# Altium integrated library Altium_WE-TPC_rev22d.IntLib: 258 symbols (part 4 of 5)
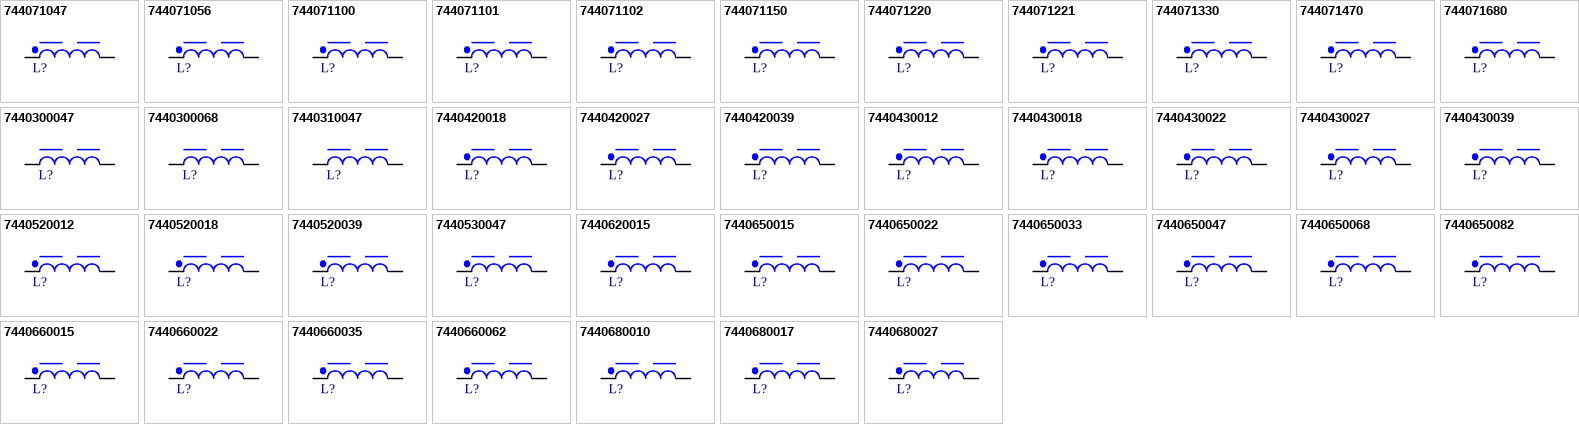
[diagram p9: symbols 744071047 to 7440680027]

## 7440420018
designator L?, comment 1.8uH, 2.35A  (value not drawn)
WE-TPC SMT Tiny Power Inductor, size 4818, 1.8uH, 2.35A, 40mOhm; Manufacturer Part Number: 7440420018; Manufacturer: Wurth Elektronik; Case/Size Code: 4818; Saturation Current: 2.4A; Self Resonant Frequency: 100MHz; Category: Power Inductors; Match Code: WE-TPC; ComponentLink1Description: Website Link; ComponentLink1URL: https://www.we-online.com/redexpert/article/7440420018?ad; ComponentLink2Description: Datasheet Link; ComponentLink2URL: https://www.we-online.com/redexpert/spec/7440420018?ad; Mount: Surface Mount; Operating Temperature Max: 125°C; Operating Temperature Min: -40°C; Packaging: Tape and Reel; Length: 4.8mm; Width: 4.8mm; Height: 1.8mm; DC Resistance: 40mOhm; Inductance: 1.8uH; Rated Current: 2.35A
footprint WE-TPC_4818
simulation model 4818_7440420018_1.8u
pins: 1, 2

## 7440420027
designator L?, comment 2.7uH, 2.03A  (value not drawn)
WE-TPC SMT Tiny Power Inductor, size 4818, 2.7uH, 2.03A, 47mOhm; Manufacturer Part Number: 7440420027; Manufacturer: Wurth Elektronik; Case/Size Code: 4818; Saturation Current: 2.2A; Self Resonant Frequency: 90MHz; Category: Power Inductors; Match Code: WE-TPC; ComponentLink1Description: Website Link; ComponentLink1URL: https://www.we-online.com/redexpert/article/7440420027?ad; ComponentLink2Description: Datasheet Link; ComponentLink2URL: https://www.we-online.com/redexpert/spec/7440420027?ad; Mount: Surface Mount; Operating Temperature Max: 125°C; Operating Temperature Min: -40°C; Packaging: Tape and Reel; Length: 4.8mm; Width: 4.8mm; Height: 1.8mm; DC Resistance: 47mOhm; Inductance: 2.7uH; Rated Current: 2.03A
footprint WE-TPC_4818
simulation model 4818_7440420027_2.7u
pins: 1, 2

## 7440420039
designator L?, comment 3.9uH, 1.82A  (value not drawn)
WE-TPC SMT Tiny Power Inductor, size 4818, 3.9uH, 1.82A, 60mOhm; Manufacturer Part Number: 7440420039; Manufacturer: Wurth Elektronik; Case/Size Code: 4818; Saturation Current: 1.7A; Self Resonant Frequency: 70MHz; Category: Power Inductors; Match Code: WE-TPC; ComponentLink1Description: Website Link; ComponentLink1URL: https://www.we-online.com/redexpert/article/7440420039?ad; ComponentLink2Description: Datasheet Link; ComponentLink2URL: https://www.we-online.com/redexpert/spec/7440420039?ad; Mount: Surface Mount; Operating Temperature Max: 125°C; Operating Temperature Min: -40°C; Packaging: Tape and Reel; Length: 4.8mm; Width: 4.8mm; Height: 1.8mm; DC Resistance: 60mOhm; Inductance: 3.9uH; Rated Current: 1.82A
footprint WE-TPC_4818
simulation model 4818_7440420039_3.9u
pins: 1, 2

## 7440430012
designator L?, comment 1.2uH, 3.1A  (value not drawn)
WE-TPC SMT Tiny Power Inductor, size 4828, 1.2uH, 3.1A, 17mOhm; Manufacturer Part Number: 7440430012; Manufacturer: Wurth Elektronik; Case/Size Code: 4828; Saturation Current: 2.8A; Self Resonant Frequency: 150MHz; Category: Power Inductors; Match Code: WE-TPC; ComponentLink1Description: Website Link; ComponentLink1URL: https://www.we-online.com/redexpert/article/7440430012?ad; ComponentLink2Description: Datasheet Link; ComponentLink2URL: https://www.we-online.com/redexpert/spec/7440430012?ad; Mount: Surface Mount; Operating Temperature Max: 125°C; Operating Temperature Min: -40°C; Packaging: Tape and Reel; Length: 4.8mm; Width: 4.8mm; Height: 2.8mm; DC Resistance: 17mOhm; Inductance: 1.2uH; Rated Current: 3.1A
footprint WE-TPC_4828
simulation model 4828_7440430012_1.2u
pins: 1, 2

## 7440430018
designator L?, comment 1.8uH, 2.7A  (value not drawn)
WE-TPC SMT Tiny Power Inductor, size 4828, 1.8uH, 2.7A, 20mOhm; Manufacturer Part Number: 7440430018; Manufacturer: Wurth Elektronik; Case/Size Code: 4828; Saturation Current: 2.45A; Self Resonant Frequency: 120MHz; Category: Power Inductors; Match Code: WE-TPC; ComponentLink1Description: Website Link; ComponentLink1URL: https://www.we-online.com/redexpert/article/7440430018?ad; ComponentLink2Description: Datasheet Link; ComponentLink2URL: https://www.we-online.com/redexpert/spec/7440430018?ad; Mount: Surface Mount; Operating Temperature Max: 125°C; Operating Temperature Min: -40°C; Packaging: Tape and Reel; Length: 4.8mm; Width: 4.8mm; Height: 2.8mm; DC Resistance: 20mOhm; Inductance: 1.8uH; Rated Current: 2.7A
footprint WE-TPC_4828
simulation model 4828_7440430018_1.8u
pins: 1, 2

## 7440430022
designator L?, comment 2.2uH, 2.5A  (value not drawn)
WE-TPC SMT Tiny Power Inductor, size 4828, 2.2uH, 2.5A, 27mOhm; Manufacturer Part Number: 7440430022; Manufacturer: Wurth Elektronik; Case/Size Code: 4828; Saturation Current: 2.35A; Self Resonant Frequency: 100MHz; Category: Power Inductors; Match Code: WE-TPC; ComponentLink1Description: Website Link; ComponentLink1URL: https://www.we-online.com/redexpert/article/7440430022?ad; ComponentLink2Description: Datasheet Link; ComponentLink2URL: https://www.we-online.com/redexpert/spec/7440430022?ad; Mount: Surface Mount; Operating Temperature Max: 125°C; Operating Temperature Min: -40°C; Packaging: Tape and Reel; Length: 4.8mm; Width: 4.8mm; Height: 2.8mm; DC Resistance: 27mOhm; Inductance: 2.2uH; Rated Current: 2.5A
footprint WE-TPC_4828
simulation model 4828_7440430022_2.2u
pins: 1, 2

## 7440430027
designator L?, comment 2.7uH, 2.35A  (value not drawn)
WE-TPC SMT Tiny Power Inductor, size 4828, 2.7uH, 2.35A, 25mOhm; Manufacturer Part Number: 7440430027; Manufacturer: Wurth Elektronik; Case/Size Code: 4828; Saturation Current: 1.95A; Self Resonant Frequency: 80MHz; Category: Power Inductors; Match Code: WE-TPC; ComponentLink1Description: Website Link; ComponentLink1URL: https://www.we-online.com/redexpert/article/7440430027?ad; ComponentLink2Description: Datasheet Link; ComponentLink2URL: https://www.we-online.com/redexpert/spec/7440430027?ad; Mount: Surface Mount; Operating Temperature Max: 125°C; Operating Temperature Min: -40°C; Packaging: Tape and Reel; Length: 4.8mm; Width: 4.8mm; Height: 2.8mm; DC Resistance: 25mOhm; Inductance: 2.7uH; Rated Current: 2.35A
footprint WE-TPC_4828
simulation model 4828_7440430027_2.7u
pins: 1, 2

## 7440430039
designator L?, comment 3.9uH, 1.72A  (value not drawn)
WE-TPC SMT Tiny Power Inductor, size 4828, 3.9uH, 1.72A, 50mOhm; Manufacturer Part Number: 7440430039; Manufacturer: Wurth Elektronik; Case/Size Code: 4828; Saturation Current: 1.65A; Self Resonant Frequency: 55MHz; Category: Power Inductors; Match Code: WE-TPC; ComponentLink1Description: Website Link; ComponentLink1URL: https://www.we-online.com/redexpert/article/7440430039?ad; ComponentLink2Description: Datasheet Link; ComponentLink2URL: https://www.we-online.com/redexpert/spec/7440430039?ad; Mount: Surface Mount; Operating Temperature Max: 125°C; Operating Temperature Min: -40°C; Packaging: Tape and Reel; Length: 4.8mm; Width: 4.8mm; Height: 2.8mm; DC Resistance: 50mOhm; Inductance: 3.9uH; Rated Current: 1.72A
footprint WE-TPC_4828
simulation model 4828_7440430039_3.9u
pins: 1, 2

## 7440520012
designator L?, comment 1.2uH, 3A  (value not drawn)
WE-TPC SMT Tiny Power Inductor, size 5818, 1.2uH, 3A, 20mOhm; Manufacturer Part Number: 7440520012; Manufacturer: Wurth Elektronik; Case/Size Code: 5818; Saturation Current: 3.5A; Self Resonant Frequency: 120MHz; Category: Power Inductors; Match Code: WE-TPC; ComponentLink1Description: Website Link; ComponentLink1URL: https://www.we-online.com/redexpert/article/7440520012?ad; ComponentLink2Description: Datasheet Link; ComponentLink2URL: https://www.we-online.com/redexpert/spec/7440520012?ad; Mount: Surface Mount; Operating Temperature Max: 125°C; Operating Temperature Min: -40°C; Packaging: Tape and Reel; Length: 5.8mm; Width: 5.8mm; Height: 1.8mm; DC Resistance: 20mOhm; Inductance: 1.2uH; Rated Current: 3A
footprint WE-TPC_5818
simulation model 5818_7440520012_1.2u
pins: 1, 2

## 7440520018
designator L?, comment 1.8uH, 2.6A  (value not drawn)
WE-TPC SMT Tiny Power Inductor, size 5818, 1.8uH, 2.6A, 24mOhm; Manufacturer Part Number: 7440520018; Manufacturer: Wurth Elektronik; Case/Size Code: 5818; Saturation Current: 3A; Self Resonant Frequency: 100MHz; Category: Power Inductors; Match Code: WE-TPC; ComponentLink1Description: Website Link; ComponentLink1URL: https://www.we-online.com/redexpert/article/7440520018?ad; ComponentLink2Description: Datasheet Link; ComponentLink2URL: https://www.we-online.com/redexpert/spec/7440520018?ad; Mount: Surface Mount; Operating Temperature Max: 125°C; Operating Temperature Min: -40°C; Packaging: Tape and Reel; Length: 5.8mm; Width: 5.8mm; Height: 1.8mm; DC Resistance: 24mOhm; Inductance: 1.8uH; Rated Current: 2.6A
footprint WE-TPC_5818
simulation model 5818_7440520018_1.8u
pins: 1, 2

## 7440520039
designator L?, comment 3.9uH, 2A  (value not drawn)
WE-TPC SMT Tiny Power Inductor, size 5818, 3.9uH, 2A, 50mOhm; Manufacturer Part Number: 7440520039; Manufacturer: Wurth Elektronik; Case/Size Code: 5818; Saturation Current: 2.1A; Self Resonant Frequency: 60MHz; Category: Power Inductors; Match Code: WE-TPC; ComponentLink1Description: Website Link; ComponentLink1URL: https://www.we-online.com/redexpert/article/7440520039?ad; ComponentLink2Description: Datasheet Link; ComponentLink2URL: https://www.we-online.com/redexpert/spec/7440520039?ad; Mount: Surface Mount; Operating Temperature Max: 125°C; Operating Temperature Min: -40°C; Packaging: Tape and Reel; Length: 5.8mm; Width: 5.8mm; Height: 1.8mm; DC Resistance: 50mOhm; Inductance: 3.9uH; Rated Current: 2A
footprint WE-TPC_5818
simulation model 5818_7440520039_3.9u
pins: 1, 2

## 7440530047
designator L?, comment 4.7uH, 2.4A  (value not drawn)
WE-TPC SMT Tiny Power Inductor, size 5828, 4.7uH, 2.4A, 30mOhm; Manufacturer Part Number: 7440530047; Manufacturer: Wurth Elektronik; Case/Size Code: 5828; Saturation Current: 1.95A; Self Resonant Frequency: 40MHz; Category: Power Inductors; Match Code: WE-TPC; ComponentLink1Description: Website Link; ComponentLink1URL: https://www.we-online.com/redexpert/article/7440530047?ad; ComponentLink2Description: Datasheet Link; ComponentLink2URL: https://www.we-online.com/redexpert/spec/7440530047?ad; Mount: Surface Mount; Operating Temperature Max: 125°C; Operating Temperature Min: -40°C; Packaging: Tape and Reel; Length: 5.8mm; Width: 5.8mm; Height: 2.8mm; DC Resistance: 30mOhm; Inductance: 4.7uH; Rated Current: 2.4A
footprint WE-TPC_5828
simulation model 5828_7440530047_4.7u
pins: 1, 2

## 7440620015
designator L?, comment 1.5uH, 4.3A  (value not drawn)
WE-TPC SMT Tiny Power Inductor, size 6823, 1.5uH, 4.3A, 10mOhm; Manufacturer Part Number: 7440620015; Manufacturer: Wurth Elektronik; Case/Size Code: 6823; Saturation Current: 4A; Self Resonant Frequency: 100MHz; Category: Power Inductors; Match Code: WE-TPC; ComponentLink1Description: Website Link; ComponentLink1URL: https://www.we-online.com/redexpert/article/7440620015?ad; ComponentLink2Description: Datasheet Link; ComponentLink2URL: https://www.we-online.com/redexpert/spec/7440620015?ad; Mount: Surface Mount; Operating Temperature Max: 125°C; Operating Temperature Min: -40°C; Packaging: Tape and Reel; Length: 6.8mm; Width: 6.8mm; Height: 2.3mm; DC Resistance: 10mOhm; Inductance: 1.5uH; Rated Current: 4.3A
footprint WE-TPC_6823
simulation model 6823_7440620015_1.5u
pins: 1, 2

## 7440650015
designator L?, comment 1.5uH, 7.2A  (value not drawn)
WE-TPC SMT Tiny Power Inductor, size 1028, 1.5uH, 7.2A, 7.3mOhm; Manufacturer Part Number: 7440650015; Manufacturer: Wurth Elektronik; Case/Size Code: 1028; Saturation Current: 7.5A; Self Resonant Frequency: 80MHz; Category: Power Inductors; Match Code: WE-TPC; ComponentLink1Description: Website Link; ComponentLink1URL: https://www.we-online.com/redexpert/article/7440650015?ad; ComponentLink2Description: Datasheet Link; ComponentLink2URL: https://www.we-online.com/redexpert/spec/7440650015?ad; Mount: Surface Mount; Operating Temperature Max: 125°C; Operating Temperature Min: -40°C; Packaging: Tape and Reel; Length: 10mm; Width: 10mm; Height: 2.78mm; DC Resistance: 7.3mOhm; Inductance: 1.5uH; Rated Current: 7.2A
footprint WE-TPC_1028
simulation model 1028_7440650015_1.5u
pins: 1, 2

## 7440650022
designator L?, comment 2.2uH, 6.2A  (value not drawn)
WE-TPC SMT Tiny Power Inductor, size 1028, 2.2uH, 6.2A, 11mOhm; Manufacturer Part Number: 7440650022; Manufacturer: Wurth Elektronik; Case/Size Code: 1028; Saturation Current: 5.9A; Self Resonant Frequency: 65MHz; Category: Power Inductors; Match Code: WE-TPC; ComponentLink1Description: Website Link; ComponentLink1URL: https://www.we-online.com/redexpert/article/7440650022?ad; ComponentLink2Description: Datasheet Link; ComponentLink2URL: https://www.we-online.com/redexpert/spec/7440650022?ad; Mount: Surface Mount; Operating Temperature Max: 125°C; Operating Temperature Min: -40°C; Packaging: Tape and Reel; Length: 10mm; Width: 10mm; Height: 2.78mm; DC Resistance: 11mOhm; Inductance: 2.2uH; Rated Current: 6.2A
footprint WE-TPC_1028
simulation model 1028_7440650022_2.2u
pins: 1, 2

## 7440650033
designator L?, comment 3.3uH, 5.3A  (value not drawn)
WE-TPC SMT Tiny Power Inductor, size 1028, 3.3uH, 5.3A, 15mOhm; Manufacturer Part Number: 7440650033; Manufacturer: Wurth Elektronik; Case/Size Code: 1028; Saturation Current: 4.7A; Self Resonant Frequency: 55MHz; Category: Power Inductors; Match Code: WE-TPC; ComponentLink1Description: Website Link; ComponentLink1URL: https://www.we-online.com/redexpert/article/7440650033?ad; ComponentLink2Description: Datasheet Link; ComponentLink2URL: https://www.we-online.com/redexpert/spec/7440650033?ad; Mount: Surface Mount; Operating Temperature Max: 125°C; Operating Temperature Min: -40°C; Packaging: Tape and Reel; Length: 10mm; Width: 10mm; Height: 2.78mm; DC Resistance: 15mOhm; Inductance: 3.3uH; Rated Current: 5.3A
footprint WE-TPC_1028
simulation model 1028_7440650033_3.3u
pins: 1, 2

## 7440650047
designator L?, comment 4.7uH, 4.6A  (value not drawn)
WE-TPC SMT Tiny Power Inductor, size 1028, 4.7uH, 4.6A, 16.5mOhm; Manufacturer Part Number: 7440650047; Manufacturer: Wurth Elektronik; Case/Size Code: 1028; Saturation Current: 4.2A; Self Resonant Frequency: 40MHz; Category: Power Inductors; Match Code: WE-TPC; ComponentLink1Description: Website Link; ComponentLink1URL: https://www.we-online.com/redexpert/article/7440650047?ad; ComponentLink2Description: Datasheet Link; ComponentLink2URL: https://www.we-online.com/redexpert/spec/7440650047?ad; Mount: Surface Mount; Operating Temperature Max: 125°C; Operating Temperature Min: -40°C; Packaging: Tape and Reel; Length: 10mm; Width: 10mm; Height: 2.78mm; DC Resistance: 16.5mOhm; Inductance: 4.7uH; Rated Current: 4.6A
footprint WE-TPC_1028
simulation model 1028_7440650047_4.7u
pins: 1, 2

## 7440650068
designator L?, comment 6.8uH, 4.2A  (value not drawn)
WE-TPC SMT Tiny Power Inductor, size 1028, 6.8uH, 4.2A, 25mOhm; Manufacturer Part Number: 7440650068; Manufacturer: Wurth Elektronik; Case/Size Code: 1028; Saturation Current: 3.6A; Self Resonant Frequency: 30MHz; Category: Power Inductors; Match Code: WE-TPC; ComponentLink1Description: Website Link; ComponentLink1URL: https://www.we-online.com/redexpert/article/7440650068?ad; ComponentLink2Description: Datasheet Link; ComponentLink2URL: https://www.we-online.com/redexpert/spec/7440650068?ad; Mount: Surface Mount; Operating Temperature Max: 125°C; Operating Temperature Min: -40°C; Packaging: Tape and Reel; Length: 10mm; Width: 10mm; Height: 2.78mm; DC Resistance: 25mOhm; Inductance: 6.8uH; Rated Current: 4.2A
footprint WE-TPC_1028
simulation model 1028_7440650068_6.8u
pins: 1, 2

## 7440650082
designator L?, comment 8.2uH, 3.8A  (value not drawn)
WE-TPC SMT Tiny Power Inductor, size 1028, 8.2uH, 3.8A, 28.5mOhm; Manufacturer Part Number: 7440650082; Manufacturer: Wurth Elektronik; Case/Size Code: 1028; Saturation Current: 2.8A; Self Resonant Frequency: 28MHz; Category: Power Inductors; Match Code: WE-TPC; ComponentLink1Description: Website Link; ComponentLink1URL: https://www.we-online.com/redexpert/article/7440650082?ad; ComponentLink2Description: Datasheet Link; ComponentLink2URL: https://www.we-online.com/redexpert/spec/7440650082?ad; Mount: Surface Mount; Operating Temperature Max: 125°C; Operating Temperature Min: -40°C; Packaging: Tape and Reel; Length: 10mm; Width: 10mm; Height: 2.78mm; DC Resistance: 28.5mOhm; Inductance: 8.2uH; Rated Current: 3.8A
footprint WE-TPC_1028
simulation model 1028_7440650082_8.2u
pins: 1, 2

## 7440660015
designator L?, comment 1.5uH, 9.6A  (value not drawn)
WE-TPC SMT Tiny Power Inductor, size 1038, 1.5uH, 9.6A, 6.6mOhm; Manufacturer Part Number: 7440660015; Manufacturer: Wurth Elektronik; Case/Size Code: 1038; Saturation Current: 10A; Self Resonant Frequency: 65MHz; Category: Power Inductors; Match Code: WE-TPC; ComponentLink1Description: Website Link; ComponentLink1URL: https://www.we-online.com/redexpert/article/7440660015?ad; ComponentLink2Description: Datasheet Link; ComponentLink2URL: https://www.we-online.com/redexpert/spec/7440660015?ad; Mount: Surface Mount; Operating Temperature Max: 125°C; Operating Temperature Min: -40°C; Packaging: Tape and Reel; Length: 10mm; Width: 10mm; Height: 3.8mm; DC Resistance: 6.6mOhm; Inductance: 1.5uH; Rated Current: 9.6A
footprint WE-TPC_1038
simulation model 1038_7440660015_1.5u
pins: 1, 2

## 7440660022
designator L?, comment 2.2uH, 8.8A  (value not drawn)
WE-TPC SMT Tiny Power Inductor, size 1038, 2.2uH, 8.8A, 8.2mOhm; Manufacturer Part Number: 7440660022; Manufacturer: Wurth Elektronik; Case/Size Code: 1038; Saturation Current: 6.8A; Self Resonant Frequency: 55MHz; Category: Power Inductors; Match Code: WE-TPC; ComponentLink1Description: Website Link; ComponentLink1URL: https://www.we-online.com/redexpert/article/7440660022?ad; ComponentLink2Description: Datasheet Link; ComponentLink2URL: https://www.we-online.com/redexpert/spec/7440660022?ad; Mount: Surface Mount; Operating Temperature Max: 125°C; Operating Temperature Min: -40°C; Packaging: Tape and Reel; Length: 10mm; Width: 10mm; Height: 3.8mm; DC Resistance: 8.2mOhm; Inductance: 2.2uH; Rated Current: 8.8A
footprint WE-TPC_1038
simulation model 1038_7440660022_2.2u
pins: 1, 2

## 7440660035
designator L?, comment 3.5uH, 6.6A  (value not drawn)
WE-TPC SMT Tiny Power Inductor, size 1038, 3.5uH, 6.6A, 13mOhm; Manufacturer Part Number: 7440660035; Manufacturer: Wurth Elektronik; Case/Size Code: 1038; Saturation Current: 6.4A; Self Resonant Frequency: 35MHz; Category: Power Inductors; Match Code: WE-TPC; ComponentLink1Description: Website Link; ComponentLink1URL: https://www.we-online.com/redexpert/article/7440660035?ad; ComponentLink2Description: Datasheet Link; ComponentLink2URL: https://www.we-online.com/redexpert/spec/7440660035?ad; Mount: Surface Mount; Operating Temperature Max: 125°C; Operating Temperature Min: -40°C; Packaging: Tape and Reel; Length: 10mm; Width: 10mm; Height: 3.8mm; DC Resistance: 13mOhm; Inductance: 3.5uH; Rated Current: 6.6A
footprint WE-TPC_1038
simulation model 1038_7440660035_3.5u
pins: 1, 2

## 7440660062
designator L?, comment 6.2uH, 5A  (value not drawn)
WE-TPC SMT Tiny Power Inductor, size 1038, 6.2uH, 5A, 20mOhm; Manufacturer Part Number: 7440660062; Manufacturer: Wurth Elektronik; Case/Size Code: 1038; Saturation Current: 4.5A; Self Resonant Frequency: 25MHz; Category: Power Inductors; Match Code: WE-TPC; ComponentLink1Description: Website Link; ComponentLink1URL: https://www.we-online.com/redexpert/article/7440660062?ad; ComponentLink2Description: Datasheet Link; ComponentLink2URL: https://www.we-online.com/redexpert/spec/7440660062?ad; Mount: Surface Mount; Operating Temperature Max: 125°C; Operating Temperature Min: -40°C; Packaging: Tape and Reel; Length: 10mm; Width: 10mm; Height: 3.8mm; DC Resistance: 20mOhm; Inductance: 6.2uH; Rated Current: 5A
footprint WE-TPC_1038
simulation model 1038_7440660062_6.2u
pins: 1, 2

## 7440680010
designator L?, comment 1uH, 2.8A  (value not drawn)
WE-TPC SMT Tiny Power Inductor, size 8012, 1uH, 2.8A, 32mOhm; Manufacturer Part Number: 7440680010; Manufacturer: Wurth Elektronik; Case/Size Code: 8012; Saturation Current: 3.3A; Self Resonant Frequency: 110MHz; Category: Power Inductors; Match Code: WE-TPC; ComponentLink1Description: Website Link; ComponentLink1URL: https://www.we-online.com/redexpert/article/7440680010?ad; ComponentLink2Description: Datasheet Link; ComponentLink2URL: https://www.we-online.com/redexpert/spec/7440680010?ad; Mount: Surface Mount; Operating Temperature Max: 125°C; Operating Temperature Min: -40°C; Packaging: Tape and Reel; Length: 8mm; Width: 8mm; Height: 1.1mm; DC Resistance: 32mOhm; Inductance: 1uH; Rated Current: 2.8A
footprint WE-TPC_8012
simulation model 8012_7440680010_1u
pins: 1, 2

## 7440680017
designator L?, comment 1.7uH, 2.5A  (value not drawn)
WE-TPC SMT Tiny Power Inductor, size 8012, 1.7uH, 2.5A, 41mOhm; Manufacturer Part Number: 7440680017; Manufacturer: Wurth Elektronik; Case/Size Code: 8012; Saturation Current: 2.4A; Self Resonant Frequency: 100MHz; Category: Power Inductors; Match Code: WE-TPC; ComponentLink1Description: Website Link; ComponentLink1URL: https://www.we-online.com/redexpert/article/7440680017?ad; ComponentLink2Description: Datasheet Link; ComponentLink2URL: https://www.we-online.com/redexpert/spec/7440680017?ad; Mount: Surface Mount; Operating Temperature Max: 125°C; Operating Temperature Min: -40°C; Packaging: Tape and Reel; Length: 8mm; Width: 8mm; Height: 1.1mm; DC Resistance: 41mOhm; Inductance: 1.7uH; Rated Current: 2.5A
footprint WE-TPC_8012
simulation model 8012_7440680017_1.7u
pins: 1, 2

## 7440680027
designator L?, comment 2.7uH, 2.2A  (value not drawn)
WE-TPC SMT Tiny Power Inductor, size 8012, 2.7uH, 2.2A, 52mOhm; Manufacturer Part Number: 7440680027; Manufacturer: Wurth Elektronik; Case/Size Code: 8012; Saturation Current: 1.9A; Self Resonant Frequency: 80MHz; Category: Power Inductors; Match Code: WE-TPC; ComponentLink1Description: Website Link; ComponentLink1URL: https://www.we-online.com/redexpert/article/7440680027?ad; ComponentLink2Description: Datasheet Link; ComponentLink2URL: https://www.we-online.com/redexpert/spec/7440680027?ad; Mount: Surface Mount; Operating Temperature Max: 125°C; Operating Temperature Min: -40°C; Packaging: Tape and Reel; Length: 8mm; Width: 8mm; Height: 1.1mm; DC Resistance: 52mOhm; Inductance: 2.7uH; Rated Current: 2.2A
footprint WE-TPC_8012
simulation model 8012_7440680027_2.7u
pins: 1, 2

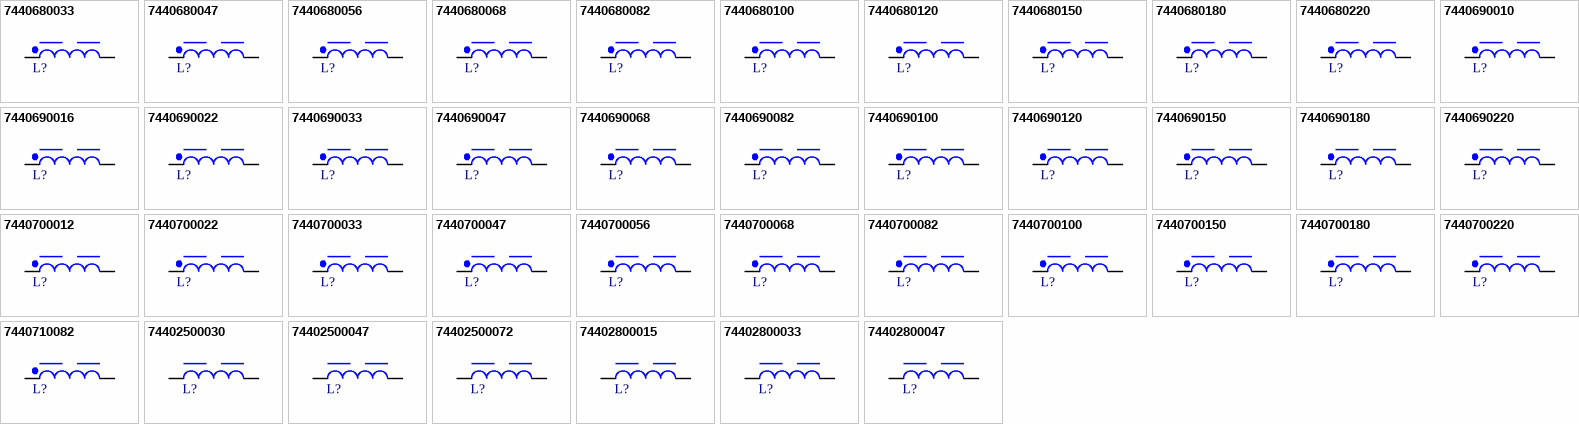
[diagram p5: symbols 7440680033 to 74402800047]

## 7440680033
designator L?, comment 3.3uH, 2A  (value not drawn)
WE-TPC SMT Tiny Power Inductor, size 8012, 3.3uH, 2A, 61mOhm; Manufacturer Part Number: 7440680033; Manufacturer: Wurth Elektronik; Case/Size Code: 8012; Saturation Current: 1.8A; Self Resonant Frequency: 65MHz; Category: Power Inductors; Match Code: WE-TPC; ComponentLink1Description: Website Link; ComponentLink1URL: https://www.we-online.com/redexpert/article/7440680033?ad; ComponentLink2Description: Datasheet Link; ComponentLink2URL: https://www.we-online.com/redexpert/spec/7440680033?ad; Mount: Surface Mount; Operating Temperature Max: 125°C; Operating Temperature Min: -40°C; Packaging: Tape and Reel; Length: 8mm; Width: 8mm; Height: 1.1mm; DC Resistance: 61mOhm; Inductance: 3.3uH; Rated Current: 2A
footprint WE-TPC_8012
simulation model 8012_7440680033_3.3u
pins: 1, 2

## 7440680047
designator L?, comment 4.7uH, 1.85A  (value not drawn)
WE-TPC SMT Tiny Power Inductor, size 8012, 4.7uH, 1.85A, 72mOhm; Manufacturer Part Number: 7440680047; Manufacturer: Wurth Elektronik; Case/Size Code: 8012; Saturation Current: 1.55A; Self Resonant Frequency: 55MHz; Category: Power Inductors; Match Code: WE-TPC; ComponentLink1Description: Website Link; ComponentLink1URL: https://www.we-online.com/redexpert/article/7440680047?ad; ComponentLink2Description: Datasheet Link; ComponentLink2URL: https://www.we-online.com/redexpert/spec/7440680047?ad; Mount: Surface Mount; Operating Temperature Max: 125°C; Operating Temperature Min: -40°C; Packaging: Tape and Reel; Length: 8mm; Width: 8mm; Height: 1.1mm; DC Resistance: 72mOhm; Inductance: 4.7uH; Rated Current: 1.85A
footprint WE-TPC_8012
simulation model 8012_7440680047_4.7u
pins: 1, 2

## 7440680056
designator L?, comment 5.6uH, 1.5A  (value not drawn)
WE-TPC SMT Tiny Power Inductor, size 8012, 5.6uH, 1.5A, 110mOhm; Manufacturer Part Number: 7440680056; Manufacturer: Wurth Elektronik; Case/Size Code: 8012; Saturation Current: 1.4A; Self Resonant Frequency: 48MHz; Category: Power Inductors; Match Code: WE-TPC; ComponentLink1Description: Website Link; ComponentLink1URL: https://www.we-online.com/redexpert/article/7440680056?ad; ComponentLink2Description: Datasheet Link; ComponentLink2URL: https://www.we-online.com/redexpert/spec/7440680056?ad; Mount: Surface Mount; Operating Temperature Max: 125°C; Operating Temperature Min: -40°C; Packaging: Tape and Reel; Length: 8mm; Width: 8mm; Height: 1.1mm; DC Resistance: 110mOhm; Inductance: 5.6uH; Rated Current: 1.5A
footprint WE-TPC_8012
simulation model 8012_7440680056_5.6u
pins: 1, 2

## 7440680068
designator L?, comment 6.8uH, 1.4A  (value not drawn)
WE-TPC SMT Tiny Power Inductor, size 8012, 6.8uH, 1.4A, 127mOhm; Manufacturer Part Number: 7440680068; Manufacturer: Wurth Elektronik; Case/Size Code: 8012; Saturation Current: 1.2A; Self Resonant Frequency: 45MHz; Category: Power Inductors; Match Code: WE-TPC; ComponentLink1Description: Website Link; ComponentLink1URL: https://www.we-online.com/redexpert/article/7440680068?ad; ComponentLink2Description: Datasheet Link; ComponentLink2URL: https://www.we-online.com/redexpert/spec/7440680068?ad; Mount: Surface Mount; Operating Temperature Max: 125°C; Operating Temperature Min: -40°C; Packaging: Tape and Reel; Length: 8mm; Width: 8mm; Height: 1.1mm; DC Resistance: 127mOhm; Inductance: 6.8uH; Rated Current: 1.4A
footprint WE-TPC_8012
simulation model 8012_7440680068_6.8u
pins: 1, 2

## 7440680082
designator L?, comment 8.2uH, 1.35A  (value not drawn)
WE-TPC SMT Tiny Power Inductor, size 8012, 8.2uH, 1.35A, 142mOhm; Manufacturer Part Number: 7440680082; Manufacturer: Wurth Elektronik; Case/Size Code: 8012; Saturation Current: 1.1A; Self Resonant Frequency: 35MHz; Category: Power Inductors; Match Code: WE-TPC; ComponentLink1Description: Website Link; ComponentLink1URL: https://www.we-online.com/redexpert/article/7440680082?ad; ComponentLink2Description: Datasheet Link; ComponentLink2URL: https://www.we-online.com/redexpert/spec/7440680082?ad; Mount: Surface Mount; Operating Temperature Max: 125°C; Operating Temperature Min: -40°C; Packaging: Tape and Reel; Length: 8mm; Width: 8mm; Height: 1.1mm; DC Resistance: 142mOhm; Inductance: 8.2uH; Rated Current: 1.35A
footprint WE-TPC_8012
simulation model 8012_7440680082_8.2u
pins: 1, 2

## 7440680100
designator L?, comment 10uH, 1.2A  (value not drawn)
WE-TPC SMT Tiny Power Inductor, size 8012, 10uH, 1.2A, 177mOhm; Manufacturer Part Number: 7440680100; Manufacturer: Wurth Elektronik; Case/Size Code: 8012; Saturation Current: 1A; Self Resonant Frequency: 25MHz; Category: Power Inductors; Match Code: WE-TPC; ComponentLink1Description: Website Link; ComponentLink1URL: https://www.we-online.com/redexpert/article/7440680100?ad; ComponentLink2Description: Datasheet Link; ComponentLink2URL: https://www.we-online.com/redexpert/spec/7440680100?ad; Mount: Surface Mount; Operating Temperature Max: 125°C; Operating Temperature Min: -40°C; Packaging: Tape and Reel; Length: 8mm; Width: 8mm; Height: 1.1mm; DC Resistance: 177mOhm; Inductance: 10uH; Rated Current: 1.2A
footprint WE-TPC_8012
simulation model 8012_7440680100_10u
pins: 1, 2

## 7440680120
designator L?, comment 12uH, 1.15A  (value not drawn)
WE-TPC SMT Tiny Power Inductor, size 8012, 12uH, 1.15A, 195mOhm; Manufacturer Part Number: 7440680120; Manufacturer: Wurth Elektronik; Case/Size Code: 8012; Saturation Current: 0.95A; Self Resonant Frequency: 22MHz; Category: Power Inductors; Match Code: WE-TPC; ComponentLink1Description: Website Link; ComponentLink1URL: https://www.we-online.com/redexpert/article/7440680120?ad; ComponentLink2Description: Datasheet Link; ComponentLink2URL: https://www.we-online.com/redexpert/spec/7440680120?ad; Mount: Surface Mount; Operating Temperature Max: 125°C; Operating Temperature Min: -40°C; Packaging: Tape and Reel; Length: 8mm; Width: 8mm; Height: 1.1mm; DC Resistance: 195mOhm; Inductance: 12uH; Rated Current: 1.15A
footprint WE-TPC_8012
simulation model 8012_7440680120_12u
pins: 1, 2

## 7440680150
designator L?, comment 15uH, 1.1A  (value not drawn)
WE-TPC SMT Tiny Power Inductor, size 8012, 15uH, 1.1A, 213mOhm; Manufacturer Part Number: 7440680150; Manufacturer: Wurth Elektronik; Case/Size Code: 8012; Saturation Current: 0.8A; Self Resonant Frequency: 20MHz; Category: Power Inductors; Match Code: WE-TPC; ComponentLink1Description: Website Link; ComponentLink1URL: https://www.we-online.com/redexpert/article/7440680150?ad; ComponentLink2Description: Datasheet Link; ComponentLink2URL: https://www.we-online.com/redexpert/spec/7440680150?ad; Mount: Surface Mount; Operating Temperature Max: 125°C; Operating Temperature Min: -40°C; Packaging: Tape and Reel; Length: 8mm; Width: 8mm; Height: 1.1mm; DC Resistance: 213mOhm; Inductance: 15uH; Rated Current: 1.1A
footprint WE-TPC_8012
simulation model 8012_7440680150_15u
pins: 1, 2

## 7440680180
designator L?, comment 18uH, 0.9A  (value not drawn)
WE-TPC SMT Tiny Power Inductor, size 8012, 18uH, 0.9A, 302mOhm; Manufacturer Part Number: 7440680180; Manufacturer: Wurth Elektronik; Case/Size Code: 8012; Saturation Current: 0.75A; Self Resonant Frequency: 14MHz; Category: Power Inductors; Match Code: WE-TPC; ComponentLink1Description: Website Link; ComponentLink1URL: https://www.we-online.com/redexpert/article/7440680180?ad; ComponentLink2Description: Datasheet Link; ComponentLink2URL: https://www.we-online.com/redexpert/spec/7440680180?ad; Mount: Surface Mount; Operating Temperature Max: 125°C; Operating Temperature Min: -40°C; Packaging: Tape and Reel; Length: 8mm; Width: 8mm; Height: 1.1mm; DC Resistance: 302mOhm; Inductance: 18uH; Rated Current: 0.9A
footprint WE-TPC_8012
simulation model 8012_7440680180_18u
pins: 1, 2

## 7440680220
designator L?, comment 22uH, 0.85A  (value not drawn)
WE-TPC SMT Tiny Power Inductor, size 8012, 22uH, 0.85A, 350mOhm; Manufacturer Part Number: 7440680220; Manufacturer: Wurth Elektronik; Case/Size Code: 8012; Saturation Current: 0.7A; Self Resonant Frequency: 10MHz; Category: Power Inductors; Match Code: WE-TPC; ComponentLink1Description: Website Link; ComponentLink1URL: https://www.we-online.com/redexpert/article/7440680220?ad; ComponentLink2Description: Datasheet Link; ComponentLink2URL: https://www.we-online.com/redexpert/spec/7440680220?ad; Mount: Surface Mount; Operating Temperature Max: 125°C; Operating Temperature Min: -40°C; Packaging: Tape and Reel; Length: 8mm; Width: 8mm; Height: 1.1mm; DC Resistance: 350mOhm; Inductance: 22uH; Rated Current: 0.85A
footprint WE-TPC_8012
simulation model 8012_7440680220_22u
pins: 1, 2

## 7440690010
designator L?, comment 1uH, 3.6A  (value not drawn)
WE-TPC SMT Tiny Power Inductor, size 8015, 1uH, 3.6A, 21mOhm; Manufacturer Part Number: 7440690010; Manufacturer: Wurth Elektronik; Case/Size Code: 8015; Saturation Current: 3.8A; Self Resonant Frequency: 90MHz; Category: Power Inductors; Match Code: WE-TPC; ComponentLink1Description: Website Link; ComponentLink1URL: https://www.we-online.com/redexpert/article/7440690010?ad; ComponentLink2Description: Datasheet Link; ComponentLink2URL: https://www.we-online.com/redexpert/spec/7440690010?ad; Mount: Surface Mount; Operating Temperature Max: 125°C; Operating Temperature Min: -40°C; Packaging: Tape and Reel; Length: 8mm; Width: 8mm; Height: 1.35mm; DC Resistance: 21mOhm; Inductance: 1uH; Rated Current: 3.6A
footprint WE-TPC_8015
simulation model 8015_7440690010_1u
pins: 1, 2

## 7440690016
designator L?, comment 1.6uH, 3.1A  (value not drawn)
WE-TPC SMT Tiny Power Inductor, size 8015, 1.6uH, 3.1A, 29mOhm; Manufacturer Part Number: 7440690016; Manufacturer: Wurth Elektronik; Case/Size Code: 8015; Saturation Current: 3.3A; Self Resonant Frequency: 85MHz; Category: Power Inductors; Match Code: WE-TPC; ComponentLink1Description: Website Link; ComponentLink1URL: https://www.we-online.com/redexpert/article/7440690016?ad; ComponentLink2Description: Datasheet Link; ComponentLink2URL: https://www.we-online.com/redexpert/spec/7440690016?ad; Mount: Surface Mount; Operating Temperature Max: 125°C; Operating Temperature Min: -40°C; Packaging: Tape and Reel; Length: 8mm; Width: 8mm; Height: 1.35mm; DC Resistance: 29mOhm; Inductance: 1.6uH; Rated Current: 3.1A
footprint WE-TPC_8015
simulation model 8015_7440690016_1.6u
pins: 1, 2

## 7440690022
designator L?, comment 2.2uH, 2.8A  (value not drawn)
WE-TPC SMT Tiny Power Inductor, size 8015, 2.2uH, 2.8A, 35mOhm; Manufacturer Part Number: 7440690022; Manufacturer: Wurth Elektronik; Case/Size Code: 8015; Saturation Current: 2.85A; Self Resonant Frequency: 50MHz; Category: Power Inductors; Match Code: WE-TPC; ComponentLink1Description: Website Link; ComponentLink1URL: https://www.we-online.com/redexpert/article/7440690022?ad; ComponentLink2Description: Datasheet Link; ComponentLink2URL: https://www.we-online.com/redexpert/spec/7440690022?ad; Mount: Surface Mount; Operating Temperature Max: 125°C; Operating Temperature Min: -40°C; Packaging: Tape and Reel; Length: 8mm; Width: 8mm; Height: 1.35mm; DC Resistance: 35mOhm; Inductance: 2.2uH; Rated Current: 2.8A
footprint WE-TPC_8015
simulation model 8015_7440690022_2.2u
pins: 1, 2

## 7440690033
designator L?, comment 3.3uH, 2.55A  (value not drawn)
WE-TPC SMT Tiny Power Inductor, size 8015, 3.3uH, 2.55A, 42mOhm; Manufacturer Part Number: 7440690033; Manufacturer: Wurth Elektronik; Case/Size Code: 8015; Saturation Current: 2.3A; Self Resonant Frequency: 40MHz; Category: Power Inductors; Match Code: WE-TPC; ComponentLink1Description: Website Link; ComponentLink1URL: https://www.we-online.com/redexpert/article/7440690033?ad; ComponentLink2Description: Datasheet Link; ComponentLink2URL: https://www.we-online.com/redexpert/spec/7440690033?ad; Mount: Surface Mount; Operating Temperature Max: 125°C; Operating Temperature Min: -40°C; Packaging: Tape and Reel; Length: 8mm; Width: 8mm; Height: 1.35mm; DC Resistance: 42mOhm; Inductance: 3.3uH; Rated Current: 2.55A
footprint WE-TPC_8015
simulation model 8015_7440690033_3.3u
pins: 1, 2

## 7440690047
designator L?, comment 4.7uH, 2.2A  (value not drawn)
WE-TPC SMT Tiny Power Inductor, size 8015, 4.7uH, 2.2A, 56mOhm; Manufacturer Part Number: 7440690047; Manufacturer: Wurth Elektronik; Case/Size Code: 8015; Saturation Current: 1.8A; Self Resonant Frequency: 30MHz; Category: Power Inductors; Match Code: WE-TPC; ComponentLink1Description: Website Link; ComponentLink1URL: https://www.we-online.com/redexpert/article/7440690047?ad; ComponentLink2Description: Datasheet Link; ComponentLink2URL: https://www.we-online.com/redexpert/spec/7440690047?ad; Mount: Surface Mount; Operating Temperature Max: 125°C; Operating Temperature Min: -40°C; Packaging: Tape and Reel; Length: 8mm; Width: 8mm; Height: 1.35mm; DC Resistance: 56mOhm; Inductance: 4.7uH; Rated Current: 2.2A
footprint WE-TPC_8015
simulation model 8015_7440690047_4.7u
pins: 1, 2

## 7440690068
designator L?, comment 6.8uH, 1.75A  (value not drawn)
WE-TPC SMT Tiny Power Inductor, size 8015, 6.8uH, 1.75A, 88mOhm; Manufacturer Part Number: 7440690068; Manufacturer: Wurth Elektronik; Case/Size Code: 8015; Saturation Current: 1.65A; Self Resonant Frequency: 15MHz; Category: Power Inductors; Match Code: WE-TPC; ComponentLink1Description: Website Link; ComponentLink1URL: https://www.we-online.com/redexpert/article/7440690068?ad; ComponentLink2Description: Datasheet Link; ComponentLink2URL: https://www.we-online.com/redexpert/spec/7440690068?ad; Mount: Surface Mount; Operating Temperature Max: 125°C; Operating Temperature Min: -40°C; Packaging: Tape and Reel; Length: 8mm; Width: 8mm; Height: 1.35mm; DC Resistance: 88mOhm; Inductance: 6.8uH; Rated Current: 1.75A
footprint WE-TPC_8015
simulation model 8015_7440690068_6.8u
pins: 1, 2

## 7440690082
designator L?, comment 8.2uH, 1.65A  (value not drawn)
WE-TPC SMT Tiny Power Inductor, size 8015, 8.2uH, 1.65A, 99mOhm; Manufacturer Part Number: 7440690082; Manufacturer: Wurth Elektronik; Case/Size Code: 8015; Saturation Current: 1.5A; Self Resonant Frequency: 12MHz; Category: Power Inductors; Match Code: WE-TPC; ComponentLink1Description: Website Link; ComponentLink1URL: https://www.we-online.com/redexpert/article/7440690082?ad; ComponentLink2Description: Datasheet Link; ComponentLink2URL: https://www.we-online.com/redexpert/spec/7440690082?ad; Mount: Surface Mount; Operating Temperature Max: 125°C; Operating Temperature Min: -40°C; Packaging: Tape and Reel; Length: 8mm; Width: 8mm; Height: 1.35mm; DC Resistance: 99mOhm; Inductance: 8.2uH; Rated Current: 1.65A
footprint WE-TPC_8015
simulation model 8015_7440690082_8.2u
pins: 1, 2

## 7440690100
designator L?, comment 10uH, 1.55A  (value not drawn)
WE-TPC SMT Tiny Power Inductor, size 8015, 10uH, 1.55A, 112mOhm; Manufacturer Part Number: 7440690100; Manufacturer: Wurth Elektronik; Case/Size Code: 8015; Saturation Current: 1.25A; Self Resonant Frequency: 10MHz; Category: Power Inductors; Match Code: WE-TPC; ComponentLink1Description: Website Link; ComponentLink1URL: https://www.we-online.com/redexpert/article/7440690100?ad; ComponentLink2Description: Datasheet Link; ComponentLink2URL: https://www.we-online.com/redexpert/spec/7440690100?ad; Mount: Surface Mount; Operating Temperature Max: 125°C; Operating Temperature Min: -40°C; Packaging: Tape and Reel; Length: 8mm; Width: 8mm; Height: 1.35mm; DC Resistance: 112mOhm; Inductance: 10uH; Rated Current: 1.55A
footprint WE-TPC_8015
simulation model 8015_7440690100_10u
pins: 1, 2

## 7440690120
designator L?, comment 12uH, 1.35A  (value not drawn)
WE-TPC SMT Tiny Power Inductor, size 8015, 12uH, 1.35A, 148mOhm; Manufacturer Part Number: 7440690120; Manufacturer: Wurth Elektronik; Case/Size Code: 8015; Saturation Current: 1.2A; Self Resonant Frequency: 9MHz; Category: Power Inductors; Match Code: WE-TPC; ComponentLink1Description: Website Link; ComponentLink1URL: https://www.we-online.com/redexpert/article/7440690120?ad; ComponentLink2Description: Datasheet Link; ComponentLink2URL: https://www.we-online.com/redexpert/spec/7440690120?ad; Mount: Surface Mount; Operating Temperature Max: 125°C; Operating Temperature Min: -40°C; Packaging: Tape and Reel; Length: 8mm; Width: 8mm; Height: 1.35mm; DC Resistance: 148mOhm; Inductance: 12uH; Rated Current: 1.35A
footprint WE-TPC_8015
simulation model 8015_7440690120_12u
pins: 1, 2

## 7440690150
designator L?, comment 15uH, 1.25A  (value not drawn)
WE-TPC SMT Tiny Power Inductor, size 8015, 15uH, 1.25A, 179mOhm; Manufacturer Part Number: 7440690150; Manufacturer: Wurth Elektronik; Case/Size Code: 8015; Saturation Current: 1.1A; Self Resonant Frequency: 8MHz; Category: Power Inductors; Match Code: WE-TPC; ComponentLink1Description: Website Link; ComponentLink1URL: https://www.we-online.com/redexpert/article/7440690150?ad; ComponentLink2Description: Datasheet Link; ComponentLink2URL: https://www.we-online.com/redexpert/spec/7440690150?ad; Mount: Surface Mount; Operating Temperature Max: 125°C; Operating Temperature Min: -40°C; Packaging: Tape and Reel; Length: 8mm; Width: 8mm; Height: 1.35mm; DC Resistance: 179mOhm; Inductance: 15uH; Rated Current: 1.25A
footprint WE-TPC_8015
simulation model 8015_7440690150_15u
pins: 1, 2

## 7440690180
designator L?, comment 18uH, 1.1A  (value not drawn)
WE-TPC SMT Tiny Power Inductor, size 8015, 18uH, 1.1A, 225mOhm; Manufacturer Part Number: 7440690180; Manufacturer: Wurth Elektronik; Case/Size Code: 8015; Saturation Current: 1.05A; Self Resonant Frequency: 7MHz; Category: Power Inductors; Match Code: WE-TPC; ComponentLink1Description: Website Link; ComponentLink1URL: https://www.we-online.com/redexpert/article/7440690180?ad; ComponentLink2Description: Datasheet Link; ComponentLink2URL: https://www.we-online.com/redexpert/spec/7440690180?ad; Mount: Surface Mount; Operating Temperature Max: 125°C; Operating Temperature Min: -40°C; Packaging: Tape and Reel; Length: 8mm; Width: 8mm; Height: 1.35mm; DC Resistance: 225mOhm; Inductance: 18uH; Rated Current: 1.1A
footprint WE-TPC_8015
simulation model 8015_7440690180_18u
pins: 1, 2

## 7440690220
designator L?, comment 22uH, 1A  (value not drawn)
WE-TPC SMT Tiny Power Inductor, size 8015, 22uH, 1A, 272mOhm; Manufacturer Part Number: 7440690220; Manufacturer: Wurth Elektronik; Case/Size Code: 8015; Saturation Current: 0.9A; Self Resonant Frequency: 6MHz; Category: Power Inductors; Match Code: WE-TPC; ComponentLink1Description: Website Link; ComponentLink1URL: https://www.we-online.com/redexpert/article/7440690220?ad; ComponentLink2Description: Datasheet Link; ComponentLink2URL: https://www.we-online.com/redexpert/spec/7440690220?ad; Mount: Surface Mount; Operating Temperature Max: 125°C; Operating Temperature Min: -40°C; Packaging: Tape and Reel; Length: 8mm; Width: 8mm; Height: 1.35mm; DC Resistance: 272mOhm; Inductance: 22uH; Rated Current: 1A
footprint WE-TPC_8015
simulation model 8015_7440690220_22u
pins: 1, 2

## 7440700012
designator L?, comment 1.2uH, 4.8A  (value not drawn)
WE-TPC SMT Tiny Power Inductor, size 8020, 1.2uH, 4.8A, 12.5mOhm; Manufacturer Part Number: 7440700012; Manufacturer: Wurth Elektronik; Case/Size Code: 8020; Saturation Current: 4.2A; Self Resonant Frequency: 150MHz; Category: Power Inductors; Match Code: WE-TPC; ComponentLink1Description: Website Link; ComponentLink1URL: https://www.we-online.com/redexpert/article/7440700012?ad; ComponentLink2Description: Datasheet Link; ComponentLink2URL: https://www.we-online.com/redexpert/spec/7440700012?ad; Mount: Surface Mount; Operating Temperature Max: 125°C; Operating Temperature Min: -40°C; Packaging: Tape and Reel; Length: 8mm; Width: 8mm; Height: 1.8mm; DC Resistance: 12.5mOhm; Inductance: 1.2uH; Rated Current: 4.8A
footprint WE-TPC_8020
simulation model 8020_7440700012_1.2u
pins: 1, 2

## 7440700022
designator L?, comment 2.2uH, 4.6A  (value not drawn)
WE-TPC SMT Tiny Power Inductor, size 8020, 2.2uH, 4.6A, 17mOhm; Manufacturer Part Number: 7440700022; Manufacturer: Wurth Elektronik; Case/Size Code: 8020; Saturation Current: 3.2A; Self Resonant Frequency: 115MHz; Category: Power Inductors; Match Code: WE-TPC; ComponentLink1Description: Website Link; ComponentLink1URL: https://www.we-online.com/redexpert/article/7440700022?ad; ComponentLink2Description: Datasheet Link; ComponentLink2URL: https://www.we-online.com/redexpert/spec/7440700022?ad; Mount: Surface Mount; Operating Temperature Max: 125°C; Operating Temperature Min: -40°C; Packaging: Tape and Reel; Length: 8mm; Width: 8mm; Height: 1.8mm; DC Resistance: 17mOhm; Inductance: 2.2uH; Rated Current: 4.6A
footprint WE-TPC_8020
simulation model 8020_7440700022_2.2u
pins: 1, 2

## 7440700033
designator L?, comment 3.3uH, 3.2A  (value not drawn)
WE-TPC SMT Tiny Power Inductor, size 8020, 3.3uH, 3.2A, 30mOhm; Manufacturer Part Number: 7440700033; Manufacturer: Wurth Elektronik; Case/Size Code: 8020; Saturation Current: 2.55A; Self Resonant Frequency: 80MHz; Category: Power Inductors; Match Code: WE-TPC; ComponentLink1Description: Website Link; ComponentLink1URL: https://www.we-online.com/redexpert/article/7440700033?ad; ComponentLink2Description: Datasheet Link; ComponentLink2URL: https://www.we-online.com/redexpert/spec/7440700033?ad; Mount: Surface Mount; Operating Temperature Max: 125°C; Operating Temperature Min: -40°C; Packaging: Tape and Reel; Length: 8mm; Width: 8mm; Height: 1.8mm; DC Resistance: 30mOhm; Inductance: 3.3uH; Rated Current: 3.2A
footprint WE-TPC_8020
simulation model 8020_7440700033_3.3u
pins: 1, 2

## 7440700047
designator L?, comment 4.7uH, 3A  (value not drawn)
WE-TPC SMT Tiny Power Inductor, size 8020, 4.7uH, 3A, 37mOhm; Manufacturer Part Number: 7440700047; Manufacturer: Wurth Elektronik; Case/Size Code: 8020; Saturation Current: 2.2A; Self Resonant Frequency: 65MHz; Category: Power Inductors; Match Code: WE-TPC; ComponentLink1Description: Website Link; ComponentLink1URL: https://www.we-online.com/redexpert/article/7440700047?ad; ComponentLink2Description: Datasheet Link; ComponentLink2URL: https://www.we-online.com/redexpert/spec/7440700047?ad; Mount: Surface Mount; Operating Temperature Max: 125°C; Operating Temperature Min: -40°C; Packaging: Tape and Reel; Length: 8mm; Width: 8mm; Height: 1.8mm; DC Resistance: 37mOhm; Inductance: 4.7uH; Rated Current: 3A
footprint WE-TPC_8020
simulation model 8020_7440700047_4.7u
pins: 1, 2

## 7440700056
designator L?, comment 5.6uH, 2.6A  (value not drawn)
WE-TPC SMT Tiny Power Inductor, size 8020, 5.6uH, 2.6A, 47mOhm; Manufacturer Part Number: 7440700056; Manufacturer: Wurth Elektronik; Case/Size Code: 8020; Saturation Current: 2A; Self Resonant Frequency: 60MHz; Category: Power Inductors; Match Code: WE-TPC; ComponentLink1Description: Website Link; ComponentLink1URL: https://www.we-online.com/redexpert/article/7440700056?ad; ComponentLink2Description: Datasheet Link; ComponentLink2URL: https://www.we-online.com/redexpert/spec/7440700056?ad; Mount: Surface Mount; Operating Temperature Max: 125°C; Operating Temperature Min: -40°C; Packaging: Tape and Reel; Length: 8mm; Width: 8mm; Height: 1.8mm; DC Resistance: 47mOhm; Inductance: 5.6uH; Rated Current: 2.6A
footprint WE-TPC_8020
simulation model 8020_7440700056_5.6u
pins: 1, 2

## 7440700068
designator L?, comment 6.8uH, 2.4A  (value not drawn)
WE-TPC SMT Tiny Power Inductor, size 8020, 6.8uH, 2.4A, 56mOhm; Manufacturer Part Number: 7440700068; Manufacturer: Wurth Elektronik; Case/Size Code: 8020; Saturation Current: 1.8A; Self Resonant Frequency: 55MHz; Category: Power Inductors; Match Code: WE-TPC; ComponentLink1Description: Website Link; ComponentLink1URL: https://www.we-online.com/redexpert/article/7440700068?ad; ComponentLink2Description: Datasheet Link; ComponentLink2URL: https://www.we-online.com/redexpert/spec/7440700068?ad; Mount: Surface Mount; Operating Temperature Max: 125°C; Operating Temperature Min: -40°C; Packaging: Tape and Reel; Length: 8mm; Width: 8mm; Height: 1.8mm; DC Resistance: 56mOhm; Inductance: 6.8uH; Rated Current: 2.4A
footprint WE-TPC_8020
simulation model 8020_7440700068_6.8u
pins: 1, 2

## 7440700082
designator L?, comment 8.2uH, 2.2A  (value not drawn)
WE-TPC SMT Tiny Power Inductor, size 8020, 8.2uH, 2.2A, 70.5mOhm; Manufacturer Part Number: 7440700082; Manufacturer: Wurth Elektronik; Case/Size Code: 8020; Saturation Current: 1.7A; Self Resonant Frequency: 50MHz; Category: Power Inductors; Match Code: WE-TPC; ComponentLink1Description: Website Link; ComponentLink1URL: https://www.we-online.com/redexpert/article/7440700082?ad; ComponentLink2Description: Datasheet Link; ComponentLink2URL: https://www.we-online.com/redexpert/spec/7440700082?ad; Mount: Surface Mount; Operating Temperature Max: 125°C; Operating Temperature Min: -40°C; Packaging: Tape and Reel; Length: 8mm; Width: 8mm; Height: 1.8mm; DC Resistance: 70.5mOhm; Inductance: 8.2uH; Rated Current: 2.2A
footprint WE-TPC_8020
simulation model 8020_7440700082_8.2u
pins: 1, 2

## 7440700100
designator L?, comment 10uH, 2A  (value not drawn)
WE-TPC SMT Tiny Power Inductor, size 8020, 10uH, 2A, 78mOhm; Manufacturer Part Number: 7440700100; Manufacturer: Wurth Elektronik; Case/Size Code: 8020; Saturation Current: 1.55A; Self Resonant Frequency: 30MHz; Category: Power Inductors; Match Code: WE-TPC; ComponentLink1Description: Website Link; ComponentLink1URL: https://www.we-online.com/redexpert/article/7440700100?ad; ComponentLink2Description: Datasheet Link; ComponentLink2URL: https://www.we-online.com/redexpert/spec/7440700100?ad; Mount: Surface Mount; Operating Temperature Max: 125°C; Operating Temperature Min: -40°C; Packaging: Tape and Reel; Length: 8mm; Width: 8mm; Height: 1.8mm; DC Resistance: 78mOhm; Inductance: 10uH; Rated Current: 2A
footprint WE-TPC_8020
simulation model 8020_7440700100_10u
pins: 1, 2

## 7440700150
designator L?, comment 15uH, 1.65A  (value not drawn)
WE-TPC SMT Tiny Power Inductor, size 8020, 15uH, 1.65A, 117mOhm; Manufacturer Part Number: 7440700150; Manufacturer: Wurth Elektronik; Case/Size Code: 8020; Saturation Current: 1.25A; Self Resonant Frequency: 25MHz; Category: Power Inductors; Match Code: WE-TPC; ComponentLink1Description: Website Link; ComponentLink1URL: https://www.we-online.com/redexpert/article/7440700150?ad; ComponentLink2Description: Datasheet Link; ComponentLink2URL: https://www.we-online.com/redexpert/spec/7440700150?ad; Mount: Surface Mount; Operating Temperature Max: 125°C; Operating Temperature Min: -40°C; Packaging: Tape and Reel; Length: 8mm; Width: 8mm; Height: 1.8mm; DC Resistance: 117mOhm; Inductance: 15uH; Rated Current: 1.65A
footprint WE-TPC_8020
simulation model 8020_7440700150_15u
pins: 1, 2

## 7440700180
designator L?, comment 18uH, 1.5A  (value not drawn)
WE-TPC SMT Tiny Power Inductor, size 8020, 18uH, 1.5A, 135mOhm; Manufacturer Part Number: 7440700180; Manufacturer: Wurth Elektronik; Case/Size Code: 8020; Saturation Current: 1.1A; Self Resonant Frequency: 20MHz; Category: Power Inductors; Match Code: WE-TPC; ComponentLink1Description: Website Link; ComponentLink1URL: https://www.we-online.com/redexpert/article/7440700180?ad; ComponentLink2Description: Datasheet Link; ComponentLink2URL: https://www.we-online.com/redexpert/spec/7440700180?ad; Mount: Surface Mount; Operating Temperature Max: 125°C; Operating Temperature Min: -40°C; Packaging: Tape and Reel; Length: 8mm; Width: 8mm; Height: 1.8mm; DC Resistance: 135mOhm; Inductance: 18uH; Rated Current: 1.5A
footprint WE-TPC_8020
simulation model 8020_7440700180_18u
pins: 1, 2